# EAGLE library part LMK1C1104DQFR (library LMK1C1104DQFR)
Clock Buffer 4-channel output LVC MOS 1.8-V buffer Source: Datasheet <https://www.ti.com/lit/ds/symlink/lmk1c1104.pdf?ts=1625794058723&ref_url=https%3A%2F%2Fwww.ti.com%2Fproduct%2FLMK1C1104>
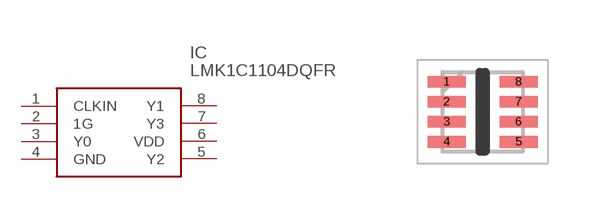
[diagram p0: symbol with the pads of SON50P200X200X80-8N; footprint SON50P200X200X80-8N]

Designator prefix IC

## LMK1C1104DQFR (Arrow_Part_Number: LMK1C1104DQFR; Arrow_Price-Stock: https://www.arrow.com/en/products/lmk1c1104dqfr/texas-instruments?utm_currency=USD&region=nac; Description: Clock Buffer 4-channel output LVC MOS 1.8-V buffer; Height: 0.8mm; Manufacturer_Name: Texas Instruments; Manufacturer_Part_Number: LMK1C1104DQFR; Mouser_Part_Number: 595-LMK1C1104DQFR; Mouser_Price-Stock: https://www.mouser.co.uk/ProductDetail/Texas-Instruments/LMK1C1104DQFR?qs=QNEnbhJQKvYdwt0bSAj%252Blw%3D%3D)  [SON50P200X200X80-8N]
1  CLKIN
2  1G
3  Y0
4  GND
5  Y2
6  VDD
7  Y3
8  Y1

## Footprint SON50P200X200X80-8N (pad centres in mm)
DQF0008A
smd 0.95 x 0.3: 1 -0.9,0.75; 2 -0.9,0.25; 3 -0.9,-0.25; 4 -0.9,-0.75; 5 0.9,-0.75; 6 0.9,-0.25; 7 0.9,0.25; 8 0.9,0.75